# EAGLE library part RN52 (library Custom-Parts)
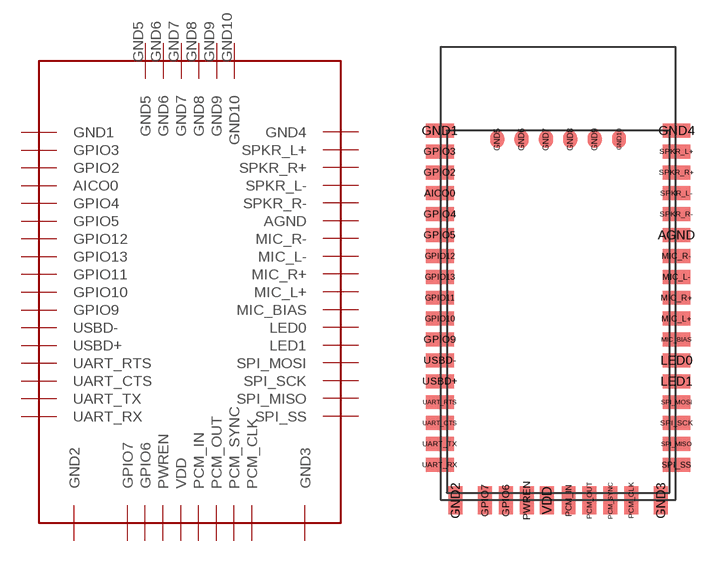
[diagram p0: symbol with the pads of RN54-PKG; footprint RN54-PKG]

Designator prefix -

## RN52  [RN54-PKG]
AGND  AGND
AICO0  AICO0
GND1  GND1
GND2  GND2
GND3  GND3
GND4  GND4
GND5  GND5
GND6  GND6
GND7  GND7
GND8  GND8
GND9  GND9
GND10  GND10
GPIO2  GPIO2
GPIO3  GPIO3
GPIO4  GPIO4
GPIO5  GPIO5
GPIO6  GPIO6
GPIO7  GPIO7
GPIO9  GPIO9
GPIO10  GPIO10
GPIO11  GPIO11
GPIO12  GPIO12
GPIO13  GPIO13
LED0  LED0
LED1  LED1
MIC_BIAS  MIC_BIAS
MIC_L+  MIC_L+
MIC_L-  MIC_L-
MIC_R+  MIC_R+
MIC_R-  MIC_R-
PCM_CLK  PCM_CLK
PCM_IN  PCM_IN
PCM_OUT  PCM_OUT
PCM_SYNC  PCM_SYNC
PWREN  PWREN
SPI_MISO  SPI_MISO
SPI_MOSI  SPI_MOSI
SPI_SCK  SPI_SCK
SPI_SS  SPI_SS
SPKR_L+  SPKR_L+
SPKR_L-  SPKR_L-
SPKR_R+  SPKR_R+
SPKR_R-  SPKR_R-
UART_CTS  UART_CTS
UART_RTS  UART_RTS
UART_RX  UART_RX
UART_TX  UART_TX
USBD+  USBD+
USBD-  USBD-
VDD  VDD

## Footprint RN54-PKG (pad centres in mm)
smd 1.6 x 0.8: AGND 6.8,2.2; AICO0 -6.8,4.6; GND1 -6.8,8.2; GND4 6.8,8.2; GPIO2 -6.8,5.8; GPIO3 -6.8,7; GPIO4 -6.8,3.4; GPIO5 -6.8,2.2; GPIO9 -6.8,-3.8; GPIO10 -6.8,-2.6; GPIO11 -6.8,-1.4; GPIO12 -6.8,1; GPIO13 -6.8,-0.2; LED0 6.8,-5; LED1 6.8,-6.2; MIC_BIAS 6.8,-3.8; MIC_L+ 6.8,-2.6; MIC_L- 6.8,-0.2; MIC_R+ 6.8,-1.4; MIC_R- 6.8,1; SPI_MISO 6.8,-9.8; SPI_MOSI 6.8,-7.4; SPI_SCK 6.8,-8.6; SPI_SS 6.8,-11; SPKR_L+ 6.8,7; SPKR_L- 6.8,4.6; SPKR_R+ 6.8,5.8; SPKR_R- 6.8,3.4; UART_CTS -6.8,-8.6; UART_RTS -6.8,-7.4; UART_RX -6.8,-11; UART_TX -6.8,-9.8; USBD+ -6.8,-6.2; USBD- -6.8,-5
smd 0.8 x 1.6: GND2 -5.9,-13.05; GND3 5.9,-13.05; GPIO6 -3,-13.05; GPIO7 -4.2,-13.05; PCM_CLK 4.2,-13.05; PCM_IN 0.6,-13.05; PCM_OUT 1.8,-13.05; PCM_SYNC 3,-13.05; PWREN -1.8,-13.05; VDD -0.65,-13.05
smd 0.8 x 1: GND5 -3.5,7.7; GND6 -2.1,7.7; GND7 -0.7,7.7; GND8 0.7,7.7; GND9 2.1,7.7; GND10 3.5,7.7